# Altium footprint library PCB - LEADLESS - QFN - LINEAR TECH QFN-16 UD.PcbLib: 1 footprints
Each footprint in its own frame and in the unit in brackets; x right, y up, seen from the top. Pads: shape width x height; smd on the part's side, far side on the other; paste and mask are expansions set on the pad; w line width, h text height; cw(c..) or ccw(c..) is an arc to the next point about the centre after c.
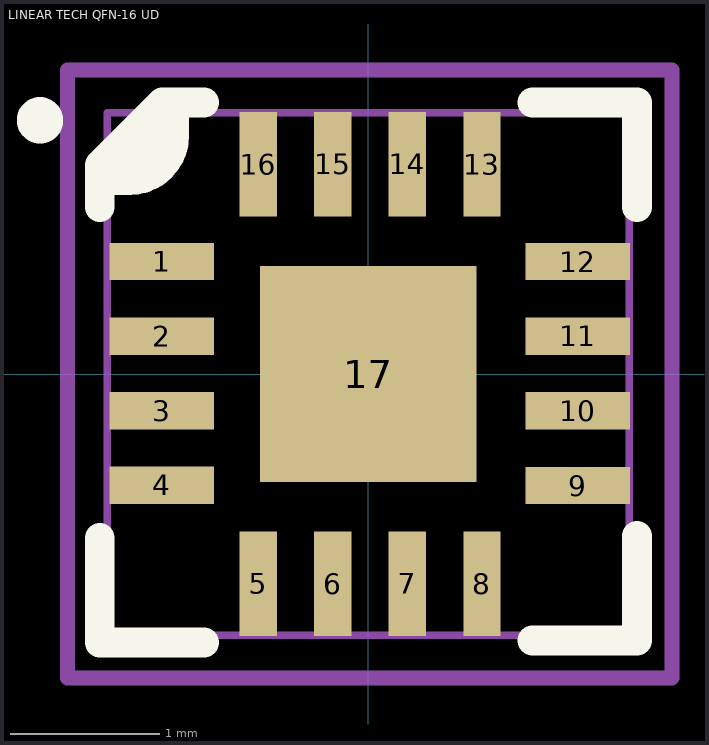
[diagram p0: the footprint, top view; thin cyan lines are the x and y axes]

## LINEAR TECH QFN-16 UD [mm] "16-lead Plastic QFN 3x3mm 0.75mm high."
height 0.8
pads (17):
  rect 0.7x0.25 smd mask+0.082: 1(-1.385,0.754) 2(-1.385,0.254) 3(-1.385,-0.246) 4(-1.385,-0.746) 9(1.405,-0.748) 10(1.405,-0.246) 11(1.405,0.254) 12(1.405,0.754)
  rect 0.25x0.7 smd mask+0.082: 5(-0.738,-1.405) 6(-0.238,-1.405) 7(0.262,-1.405) 8(0.762,-1.405) 13(0.762,1.405) 14(0.262,1.405) 15(-0.238,1.405) 16(-0.738,1.405)
  rect 1.45x1.45 smd mask+0.082: 17(0,0)
Top Overlay:
  circle w0.254: c-2.2,1.7 r0.028
  region: -1.4,1.8 -1.8,1.4 -1.8,1.3 -1.5,1.3 -1.3,1.6 -1.3,1.8
  lines w0.2: -1.8,-1.1 -1.8,-1.8 -1.1,-1.8 ; -1.8,1.119 -1.8,1.4 -1.381,1.819 -1.1,1.819 ; -1.8,1.3 -1.6,1.3 ccw(c-1.6,1.6) -1.3,1.6 -1.3,1.8 ; 1.101,-1.786 1.801,-1.786 1.801,-1.086 ; 1.101,1.819 1.801,1.819 1.801,1.119
Mechanical 1:
  lines w0.05: -1.75,-1.75 -1.75,1.75 ; -1.75,-1.75 1.75,-1.75 ; -1.75,-1.75 -1.75,1.75 ; -1.75,-1.75 1.75,-1.75 ; -1.75,1.75 1.75,1.75 ; -1.75,1.75 1.75,1.75 ; 1.75,-1.75 1.75,1.75 ; 1.75,-1.75 1.75,1.75
Mechanical 15 (Mech15):
  lines w0.1: -0.5,0 0.5,0 ; 0,-0.5 0,0.5 ; -2.017,-2.037 -2.017,2.037 2.037,2.037 2.037,-2.037 -2.017,-2.037
3D body: height 0.56, standoff 0.05, extent -1.75,-1.75 1.75,1.75